# EAGLE library part LPC812_16 (library heck)
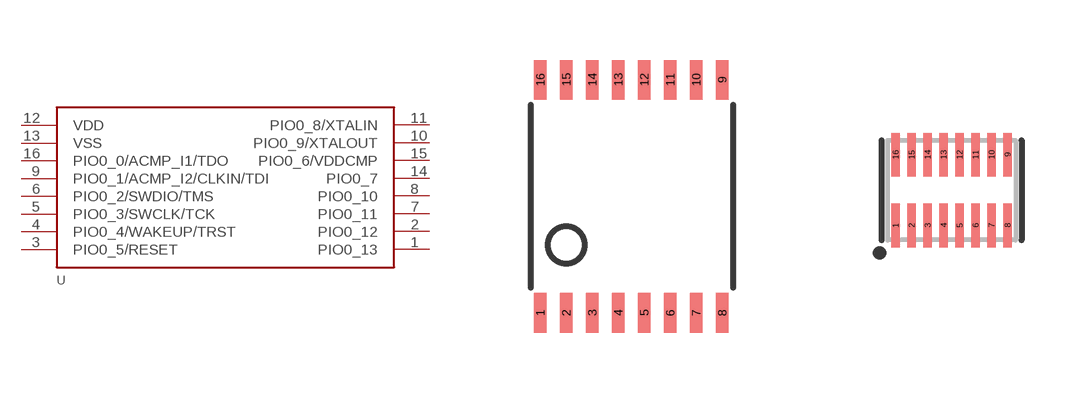
[diagram p7: symbol with the pads of TSSOP16; footprints TSSOP16, SOT1341-1]

Designator prefix U

## LPC812_16M001JDH16/M101JDH16  [TSSOP16]
1  PIO0_13
2  PIO0_12
3  PIO0_5/RESET
4  PIO0_4/WAKEUP/TRST
5  PIO0_3/SWCLK/TCK
6  PIO0_2/SWDIO/TMS
7  PIO0_11
8  PIO0_10
9  PIO0_1/ACMP_I2/CLKIN/TDI
10  PIO0_9/XTALOUT
11  PIO0_8/XTALIN
12  VDD
13  VSS
14  PIO0_7
15  PIO0_6/VDDCMP
16  PIO0_0/ACMP_I1/TDO

## LPC812_16M101JTB16  [SOT1341-1]
Pads as for TSSOP16

## Footprint TSSOP16 (pad centres in mm)
smd 0.305 x 0.991: 1 -2.29,-2.918; 2 -1.64,-2.918; 3 -0.99,-2.918; 4 -0.34,-2.918; 5 0.31,-2.918; 6 0.96,-2.918; 7 1.61,-2.918; 8 2.26,-2.918; 9 2.26,2.918; 10 1.61,2.918; 11 0.96,2.918; 12 0.31,2.918; 13 -0.34,2.918; 14 -0.99,2.918; 15 -1.64,2.918; 16 -2.29,2.918

## Footprint SOT1341-1 (pad centres in mm)
smd 0.22 x 1.07: 1 -1.4,-0.885; 2 -1,-0.885; 3 -0.6,-0.885; 4 -0.2,-0.885; 5 0.2,-0.885; 6 0.6,-0.885; 7 1,-0.885; 8 1.4,-0.885; 9 1.4,0.885; 10 1,0.885; 11 0.6,0.885; 12 0.2,0.885; 13 -0.2,0.885; 14 -0.6,0.885; 15 -1,0.885; 16 -1.4,0.885